# Altium footprint library Shida_Design2.PcbLib: 5 footprints
Each footprint in its own frame and in the unit in brackets; x right, y up, seen from the top. Pads: shape width x height; smd on the part's side, far side on the other; paste and mask are expansions set on the pad; w line width, h text height; cw(c..) or ccw(c..) is an arc to the next point about the centre after c.
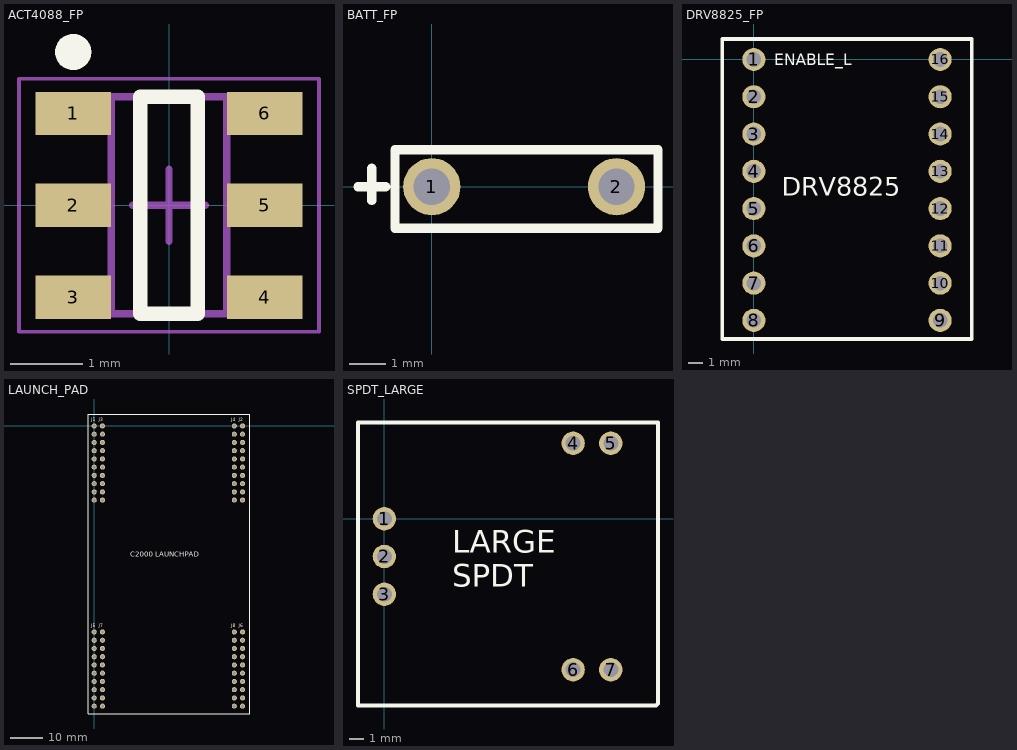
[diagram p0: the footprints below, top view; thin cyan lines are the x and y axes]

## ACT4088_FP [mm] "SOIC, 6-Leads, Body 3.00x1.60mm, Pitch 1.27mm, IPC Medium Density"
height 1.25
pads (6):
  rect 1.05x0.6 smd: 1(-1.325,1.27) 2(-1.325,0) 3(-1.325,-1.27) 4(1.325,-1.27) 5(1.325,0) 6(1.325,1.27)
Top Overlay:
  circle w0.25: c-1.325,2.12 r0.125
  lines w0.2: -0.4,-1.5 -0.4,1.5 0.4,1.5 0.4,-1.5 -0.4,-1.5
Mechanical 13:
  lines w0.1: -0.8,-1.5 -0.8,1.5 0.8,1.5 0.8,-1.5 -0.8,-1.5
Mechanical 15:
  lines w0.05: -2.075,-1.75 -2.075,1.75 2.075,1.75 2.075,-1.75 -2.075,-1.75
  lines w0.1: -0.5,0 0.5,0 ; 0,-0.5 0,0.5
3D body: height 1.25, standoff 0, extent -0.8,-1.5 0.8,1.5

## BATT_FP [mil]
pads (2):
  round 62 hole 39.4: 1(0,0) 2(200,0)
Top Overlay:
  lines w10: -80,0 -50,0 ; -65,-15 -65,20 ; -40,-45 245,-45 245,40 -40,40 -40,-45

## DRV8825_FP [mil]
pads (16):
  round 62 hole 39.4: 1(0,0) 2(0,-100) 3(0,-200) 4(0,-300) 5(0,-400) 6(0,-500) 7(0,-600) 8(0,-700) 9(500,-700) 10(500,-600) 11(500,-500) 12(500,-400) 13(500,-300) 14(500,-200) 15(500,-100) 16(500,0)
Top Overlay:
  lines w10: 465,-750 585,-750 585,-548.75 585,-146.25 585,55 465,55 ; 555,-750 -55,-750 -85,-750 -85,55 -55,55 555,55
  text "DRV8825" at 75,-365 h50
  text "ENABLE_L" at 55,-15 h30

## LAUNCH_PAD [mil]
pads (80):
  round 62 hole 39.4: 1(0,0) 2(0,-100) 3(0,-200) 4(0,-300) 5(0,-400) 6(0,-500) 7(0,-600) 8(0,-700) 9(0,-800) 10(0,-900) 11(1800,-900) 12(1800,-800) 13(1800,-700) 14(1800,-600) 15(1800,-500) 16(1800,-400) 17(1800,-300) 18(1800,-200) 19(1800,-100) 20(1800,0) 21(100,0) 22(100,-100) 23(100,-200) 24(100,-300) 25(100,-400) 26(100,-500) 27(100,-600) 28(100,-700) 29(100,-800) 30(100,-900) 31(1700,-900) 32(1700,-800) 33(1700,-700) 34(1700,-600) 35(1700,-500) 36(1700,-400) 37(1700,-300) 38(1700,-200) 39(1700,-100) 40(1700,0) 41(0,-2500) 42(0,-2600) 43(0,-2700) 44(0,-2800) 45(0,-2900) 46(0,-3000) 47(0,-3100) 48(0,-3200) 49(0,-3300) 50(0,-3400) 51(1800,-3400) 52(1800,-3300) 53(1800,-3200) 54(1800,-3100) 55(1800,-3000) 56(1800,-2900) 57(1800,-2800) 58(1800,-2700) 59(1800,-2600) 60(1800,-2500) 61(100,-2500) 62(100,-2600) 63(100,-2700) 64(100,-2800) 65(100,-2900) 66(100,-3000) 67(100,-3100) 68(100,-3200) 69(100,-3300) 70(100,-3400) 71(1700,-3400) 72(1700,-3300) 73(1700,-3200) 74(1700,-3100) 75(1700,-3000) 76(1700,-2900) 77(1700,-2800) 78(1700,-2700) 79(1700,-2600) 80(1700,-2500)
Top Overlay:
  lines w10: -70,-3495 1885,-3495 1885,145 -70,145 -70,-3495
  text "C2000 LAUNCHPAD" at 440,-1590 h60
  text "J8" at 1665,-2445 h40
  text "J6" at 1755,-2445 h40
  text "J5" at -35,-2445 h40
  text "J7" at 55,-2445 h40
  text "J4" at 1665,55 h40
  text "J2" at 1755,55 h40
  text "J3" at 55,55 h40
  text "J1" at -35,55 h40

## SPDT_LARGE [mil]
pads (7):
  round 62 hole 39.4: 1(0,0) 2(0,-100) 3(0,-200) 4(500,200) 5(600,200) 6(500,-400) 7(600,-400)
Top Overlay:
  lines w10: -70,-495 720,-495 725,-490 725,255 -70,255 -70,-495
  text "LARGE / SPDT" at 180.05,-180 h60